# Altium schematic symbol library SCH - MCU - STM32 - ST MICROELECTRONICS STM32H573AIIX UFBGA169.SchLib: 1 symbol
Pins are listed as number, name and electrical type; pins without a type are passive.

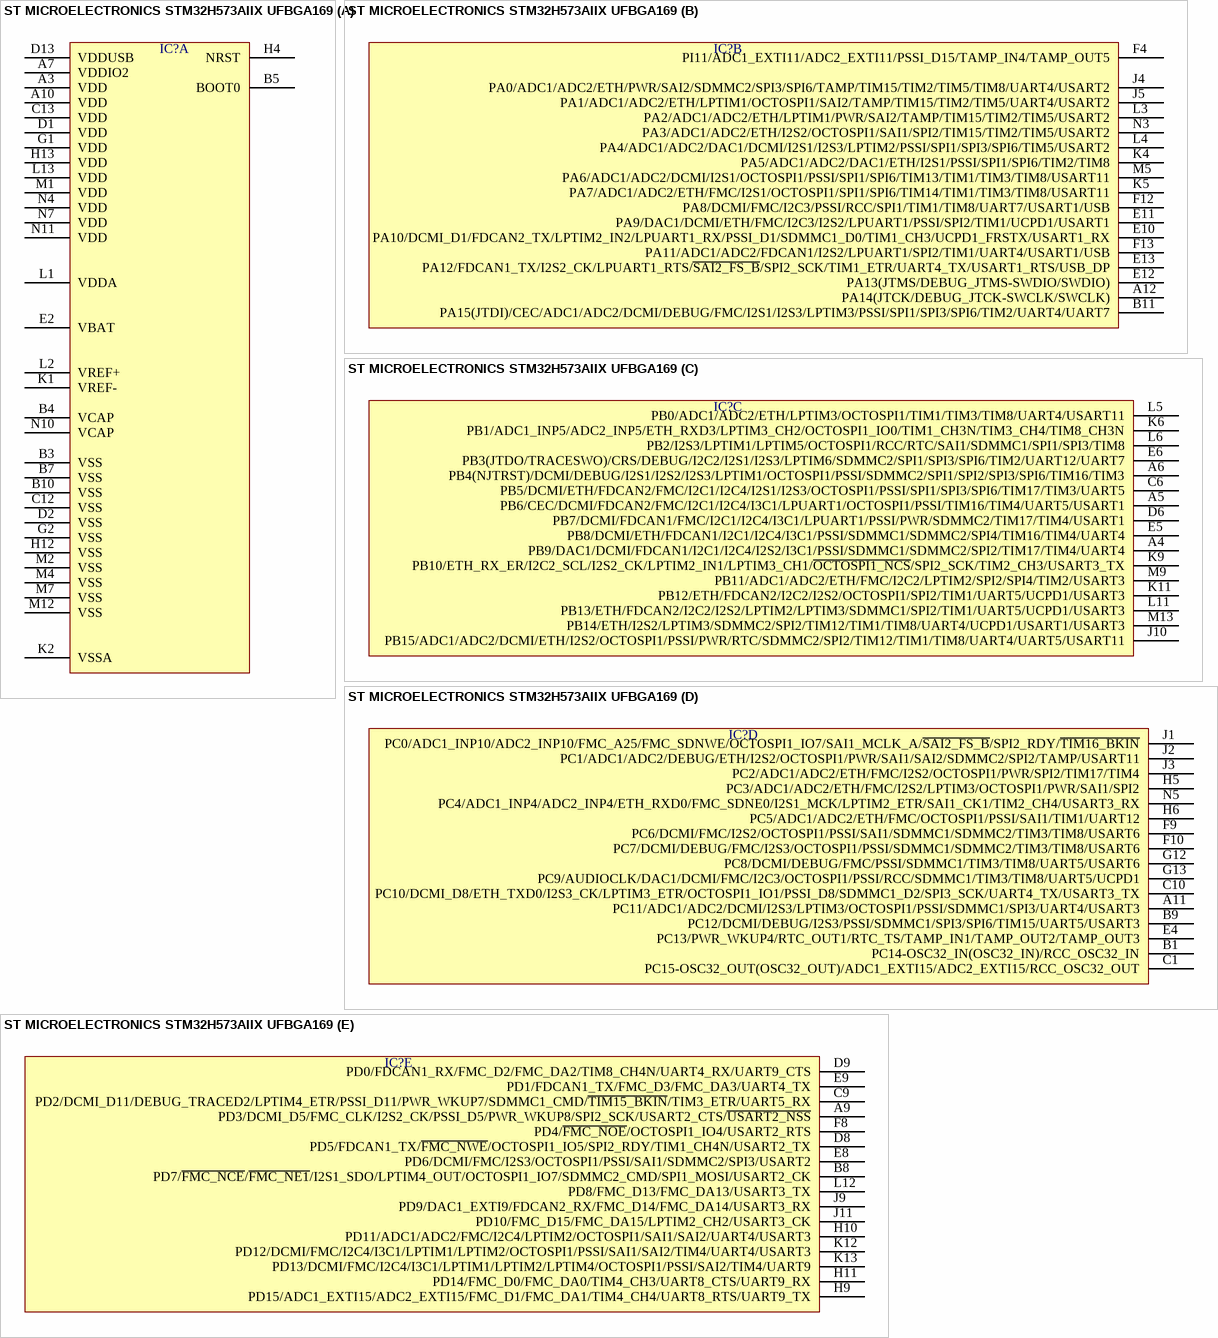
[diagram p0: symbol ST MICROELECTRONICS STM32H573AIIX UFBGA169]

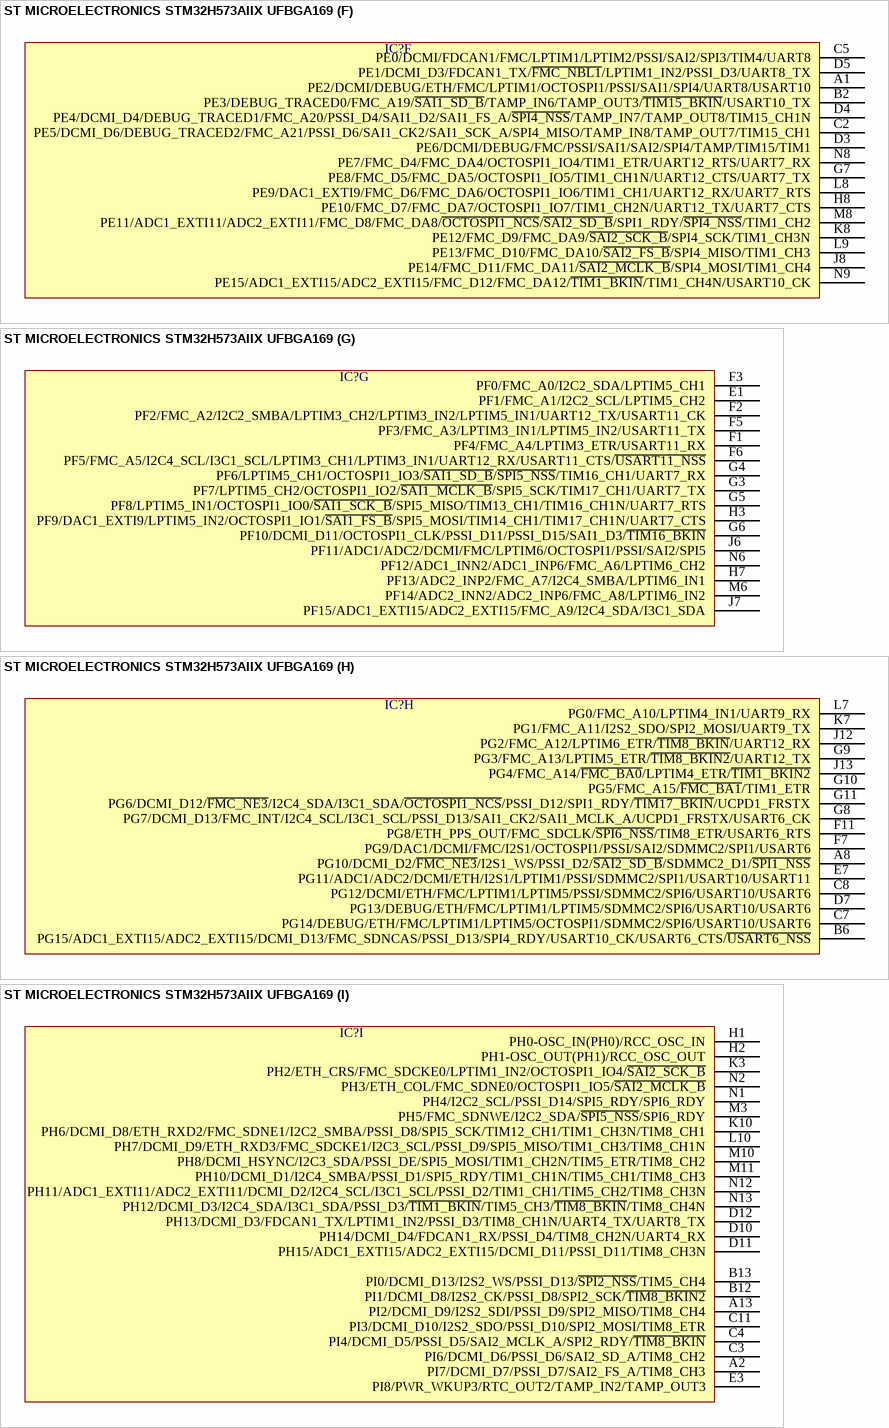
[diagram p1: symbol ST MICROELECTRONICS STM32H573AIIX UFBGA169]

## ST MICROELECTRONICS STM32H573AIIX UFBGA169
designator IC?  (value not drawn)
part A pins: A3 VDD, A7 VDDIO2, A10 VDD, B3 VSS, B4 VCAP, B5 BOOT0, B7 VSS, B10 VSS, C12 VSS, C13 VDD, D1 VDD, D2 VSS, D13 VDDUSB, E2 VBAT, G1 VDD, G2 VSS, H4 NRST, H12 VSS, H13 VDD, K1 VREF-, K2 VSSA, L1 VDDA, L2 VREF+, L13 VDD, M1 VDD, M2 VSS, M4 VSS, M7 VSS, M12 VSS, N4 VDD, N7 VDD, N10 VCAP, N11 VDD
part B pins: A12 PA14(JTCK/DEBUG_JTCK-SWCLK/SWCLK), B11 PA15(JTDI)/CEC/ADC1/ADC2/DCMI/DEBUG/FMC/I2S1/I2S3/LPTIM3/PSSI/SPI1/SPI3/SPI6/TIM2/UART4/UART7, E10 PA10/DCMI_D1/FDCAN2_TX/LPTIM2_IN2/LPUART1_RX/PSSI_D1/SDMMC1_D0/TIM1_CH3/UCPD1_FRSTX/USART1_RX, E11 PA9/DAC1/DCMI/ETH/FMC/I2C3/I2S2/LPUART1/PSSI/SPI2/TIM1/UCPD1/USART1, E12 PA13(JTMS/DEBUG_JTMS-SWDIO/SWDIO), E13 PA12/FDCAN1_TX/I2S2_CK/LPUART1_RTS/~{SAI2_FS_B}/SPI2_SCK/TIM1_ETR/UART4_TX/USART1_RTS/USB_DP, F4 PI11/ADC1_EXTI11/ADC2_EXTI11/PSSI_D15/TAMP_IN4/TAMP_OUT5, F12 PA8/DCMI/FMC/I2C3/PSSI/RCC/SPI1/TIM1/TIM8/UART7/USART1/USB, F13 PA11/ADC1/ADC2/FDCAN1/I2S2/LPUART1/SPI2/TIM1/UART4/USART1/USB, J4 PA0/ADC1/ADC2/ETH/PWR/SAI2/SDMMC2/SPI3/SPI6/TAMP/TIM15/TIM2/TIM5/TIM8/UART4/USART2, J5 PA1/ADC1/ADC2/ETH/LPTIM1/OCTOSPI1/SAI2/TAMP/TIM15/TIM2/TIM5/UART4/USART2, K4 PA5/ADC1/ADC2/DAC1/ETH/I2S1/PSSI/SPI1/SPI6/TIM2/TIM8, K5 PA7/ADC1/ADC2/ETH/FMC/I2S1/OCTOSPI1/SPI1/SPI6/TIM14/TIM1/TIM3/TIM8/USART11, L3 PA2/ADC1/ADC2/ETH/LPTIM1/PWR/SAI2/TAMP/TIM15/TIM2/TIM5/USART2, L4 PA4/ADC1/ADC2/DAC1/DCMI/I2S1/I2S3/LPTIM2/PSSI/SPI1/SPI3/SPI6/TIM5/USART2, M5 PA6/ADC1/ADC2/DCMI/I2S1/OCTOSPI1/PSSI/SPI1/SPI6/TIM13/TIM1/TIM3/TIM8/USART11, N3 PA3/ADC1/ADC2/ETH/I2S2/OCTOSPI1/SAI1/SPI2/TIM15/TIM2/TIM5/USART2
part C pins: A4 PB9/DAC1/DCMI/FDCAN1/I2C1/I2C4/I2S2/I3C1/PSSI/SDMMC1/SDMMC2/SPI2/TIM17/TIM4/UART4, A5 PB6/CEC/DCMI/FDCAN2/FMC/I2C1/I2C4/I3C1/LPUART1/OCTOSPI1/PSSI/TIM16/TIM4/UART5/USART1, A6 PB4(NJTRST)/DCMI/DEBUG/I2S1/I2S2/I2S3/LPTIM1/OCTOSPI1/PSSI/SDMMC2/SPI1/SPI2/SPI3/SPI6/TIM16/TIM3, C6 PB5/DCMI/ETH/FDCAN2/FMC/I2C1/I2C4/I2S1/I2S3/OCTOSPI1/PSSI/SPI1/SPI3/SPI6/TIM17/TIM3/UART5, D6 PB7/DCMI/FDCAN1/FMC/I2C1/I2C4/I3C1/LPUART1/PSSI/PWR/SDMMC2/TIM17/TIM4/USART1, E5 PB8/DCMI/ETH/FDCAN1/I2C1/I2C4/I3C1/PSSI/SDMMC1/SDMMC2/SPI4/TIM16/TIM4/UART4, E6 PB3(JTDO/TRACESWO)/CRS/DEBUG/I2C2/I2S1/I2S3/LPTIM6/SDMMC2/SPI1/SPI3/SPI6/TIM2/UART12/UART7, J10 PB15/ADC1/ADC2/DCMI/ETH/I2S2/OCTOSPI1/PSSI/PWR/RTC/SDMMC2/SPI2/TIM12/TIM1/TIM8/UART4/UART5/USART11, K6 PB1/ADC1_INP5/ADC2_INP5/ETH_RXD3/LPTIM3_CH2/OCTOSPI1_IO0/TIM1_CH3N/TIM3_CH4/TIM8_CH3N, K9 PB10/ETH_RX_ER/I2C2_SCL/I2S2_CK/LPTIM2_IN1/LPTIM3_CH1/~{OCTOSPI1_NCS}/SPI2_SCK/TIM2_CH3/USART3_TX, K11 PB12/ETH/FDCAN2/I2C2/I2S2/OCTOSPI1/SPI2/TIM1/UART5/UCPD1/USART3, L5 PB0/ADC1/ADC2/ETH/LPTIM3/OCTOSPI1/TIM1/TIM3/TIM8/UART4/USART11, L6 PB2/I2S3/LPTIM1/LPTIM5/OCTOSPI1/RCC/RTC/SAI1/SDMMC1/SPI1/SPI3/TIM8, L11 PB13/ETH/FDCAN2/I2C2/I2S2/LPTIM2/LPTIM3/SDMMC1/SPI2/TIM1/UART5/UCPD1/USART3, M9 PB11/ADC1/ADC2/ETH/FMC/I2C2/LPTIM2/SPI2/SPI4/TIM2/USART3, M13 PB14/ETH/I2S2/LPTIM3/SDMMC2/SPI2/TIM12/TIM1/TIM8/UART4/UCPD1/USART1/USART3
part D pins: A11 PC11/ADC1/ADC2/DCMI/I2S3/LPTIM3/OCTOSPI1/PSSI/SDMMC1/SPI3/UART4/USART3, B1 PC14-OSC32_IN(OSC32_IN)/RCC_OSC32_IN, B9 PC12/DCMI/DEBUG/I2S3/PSSI/SDMMC1/SPI3/SPI6/TIM15/UART5/USART3, C1 PC15-OSC32_OUT(OSC32_OUT)/ADC1_EXTI15/ADC2_EXTI15/RCC_OSC32_OUT, C10 PC10/DCMI_D8/ETH_TXD0/I2S3_CK/LPTIM3_ETR/OCTOSPI1_IO1/PSSI_D8/SDMMC1_D2/SPI3_SCK/UART4_TX/USART3_TX, E4 PC13/PWR_WKUP4/RTC_OUT1/RTC_TS/TAMP_IN1/TAMP_OUT2/TAMP_OUT3, F9 PC6/DCMI/FMC/I2S2/OCTOSPI1/PSSI/SAI1/SDMMC1/SDMMC2/TIM3/TIM8/USART6, F10 PC7/DCMI/DEBUG/FMC/I2S3/OCTOSPI1/PSSI/SDMMC1/SDMMC2/TIM3/TIM8/USART6, G12 PC8/DCMI/DEBUG/FMC/PSSI/SDMMC1/TIM3/TIM8/UART5/USART6, G13 PC9/AUDIOCLK/DAC1/DCMI/FMC/I2C3/OCTOSPI1/PSSI/RCC/SDMMC1/TIM3/TIM8/UART5/UCPD1, H5 PC3/ADC1/ADC2/ETH/FMC/I2S2/LPTIM3/OCTOSPI1/PWR/SAI1/SPI2, H6 PC5/ADC1/ADC2/ETH/FMC/OCTOSPI1/PSSI/SAI1/TIM1/UART12, J1 PC0/ADC1_INP10/ADC2_INP10/FMC_A25/FMC_SDNWE/OCTOSPI1_IO7/SAI1_MCLK_A/~{SAI2_FS_B}/SPI2_RDY/~{TIM16_BKIN}, J2 PC1/ADC1/ADC2/DEBUG/ETH/I2S2/OCTOSPI1/PWR/SAI1/SAI2/SDMMC2/SPI2/TAMP/USART11, J3 PC2/ADC1/ADC2/ETH/FMC/I2S2/OCTOSPI1/PWR/SPI2/TIM17/TIM4, N5 PC4/ADC1_INP4/ADC2_INP4/ETH_RXD0/FMC_SDNE0/I2S1_MCK/LPTIM2_ETR/SAI1_CK1/TIM2_CH4/USART3_RX
part E pins: A9 PD3/DCMI_D5/FMC_CLK/I2S2_CK/PSSI_D5/PWR_WKUP8/SPI2_SCK/USART2_CTS/~{USART2_NSS}, B8 PD7/~{FMC_NCE}/~{FMC_NE1}/I2S1_SDO/LPTIM4_OUT/OCTOSPI1_IO7/SDMMC2_CMD/SPI1_MOSI/USART2_CK, C9 PD2/DCMI_D11/DEBUG_TRACED2/LPTIM4_ETR/PSSI_D11/PWR_WKUP7/SDMMC1_CMD/~{TIM15_BKIN}/TIM3_ETR/UART5_RX, D8 PD5/FDCAN1_TX/~{FMC_NWE}/OCTOSPI1_IO5/SPI2_RDY/TIM1_CH4N/USART2_TX, D9 PD0/FDCAN1_RX/FMC_D2/FMC_DA2/TIM8_CH4N/UART4_RX/UART9_CTS, E8 PD6/DCMI/FMC/I2S3/OCTOSPI1/PSSI/SAI1/SDMMC2/SPI3/USART2, E9 PD1/FDCAN1_TX/FMC_D3/FMC_DA3/UART4_TX, F8 PD4/~{FMC_NOE}/OCTOSPI1_IO4/USART2_RTS, H9 PD15/ADC1_EXTI15/ADC2_EXTI15/FMC_D1/FMC_DA1/TIM4_CH4/UART8_RTS/UART9_TX, H10 PD11/ADC1/ADC2/FMC/I2C4/LPTIM2/OCTOSPI1/SAI1/SAI2/UART4/USART3, H11 PD14/FMC_D0/FMC_DA0/TIM4_CH3/UART8_CTS/UART9_RX, J9 PD9/DAC1_EXTI9/FDCAN2_RX/FMC_D14/FMC_DA14/USART3_RX, J11 PD10/FMC_D15/FMC_DA15/LPTIM2_CH2/USART3_CK, K12 PD12/DCMI/FMC/I2C4/I3C1/LPTIM1/LPTIM2/OCTOSPI1/PSSI/SAI1/SAI2/TIM4/UART4/USART3, K13 PD13/DCMI/FMC/I2C4/I3C1/LPTIM1/LPTIM2/LPTIM4/OCTOSPI1/PSSI/SAI2/TIM4/UART9, L12 PD8/FMC_D13/FMC_DA13/USART3_TX
part F pins: A1 PE2/DCMI/DEBUG/ETH/FMC/LPTIM1/OCTOSPI1/PSSI/SAI1/SPI4/UART8/USART10, B2 PE3/DEBUG_TRACED0/FMC_A19/~{SAI1_SD_B}/TAMP_IN6/TAMP_OUT3/~{TIM15_BKIN}/USART10_TX, C2 PE5/DCMI_D6/DEBUG_TRACED2/FMC_A21/PSSI_D6/SAI1_CK2/SAI1_SCK_A/SPI4_MISO/TAMP_IN8/TAMP_OUT7/TIM15_CH1, C5 PE0/DCMI/FDCAN1/FMC/LPTIM1/LPTIM2/PSSI/SAI2/SPI3/TIM4/UART8, D3 PE6/DCMI/DEBUG/FMC/PSSI/SAI1/SAI2/SPI4/TAMP/TIM15/TIM1, D4 PE4/DCMI_D4/DEBUG_TRACED1/FMC_A20/PSSI_D4/SAI1_D2/SAI1_FS_A/~{SPI4_NSS}/TAMP_IN7/TAMP_OUT8/TIM15_CH1N, D5 PE1/DCMI_D3/FDCAN1_TX/~{FMC_NBL1}/LPTIM1_IN2/PSSI_D3/UART8_TX, G7 PE8/FMC_D5/FMC_DA5/OCTOSPI1_IO5/TIM1_CH1N/UART12_CTS/UART7_TX, H8 PE10/FMC_D7/FMC_DA7/OCTOSPI1_IO7/TIM1_CH2N/UART12_TX/UART7_CTS, J8 PE14/FMC_D11/FMC_DA11/~{SAI2_MCLK_B}/SPI4_MOSI/TIM1_CH4, K8 PE12/FMC_D9/FMC_DA9/~{SAI2_SCK_B}/SPI4_SCK/TIM1_CH3N, L8 PE9/DAC1_EXTI9/FMC_D6/FMC_DA6/OCTOSPI1_IO6/TIM1_CH1/UART12_RX/UART7_RTS, L9 PE13/FMC_D10/FMC_DA10/~{SAI2_FS_B}/SPI4_MISO/TIM1_CH3, M8 PE11/ADC1_EXTI11/ADC2_EXTI11/FMC_D8/FMC_DA8/~{OCTOSPI1_NCS}/~{SAI2_SD_B}/SPI1_RDY/~{SPI4_NSS}/TIM1_CH2, N8 PE7/FMC_D4/FMC_DA4/OCTOSPI1_IO4/TIM1_ETR/UART12_RTS/UART7_RX, N9 PE15/ADC1_EXTI15/ADC2_EXTI15/FMC_D12/FMC_DA12/~{TIM1_BKIN}/TIM1_CH4N/USART10_CK
part G pins: E1 PF1/FMC_A1/I2C2_SCL/LPTIM5_CH2, F1 PF4/FMC_A4/LPTIM3_ETR/USART11_RX, F2 PF2/FMC_A2/I2C2_SMBA/LPTIM3_CH2/LPTIM3_IN2/LPTIM5_IN1/UART12_TX/USART11_CK, F3 PF0/FMC_A0/I2C2_SDA/LPTIM5_CH1, F5 PF3/FMC_A3/LPTIM3_IN1/LPTIM5_IN2/USART11_TX, F6 PF5/FMC_A5/I2C4_SCL/I3C1_SCL/LPTIM3_CH1/LPTIM3_IN1/UART12_RX/USART11_CTS/~{USART11_NSS}, G3 PF7/LPTIM5_CH2/OCTOSPI1_IO2/~{SAI1_MCLK_B}/SPI5_SCK/TIM17_CH1/UART7_TX, G4 PF6/LPTIM5_CH1/OCTOSPI1_IO3/~{SAI1_SD_B}/~{SPI5_NSS}/TIM16_CH1/UART7_RX, G5 PF8/LPTIM5_IN1/OCTOSPI1_IO0/~{SAI1_SCK_B}/SPI5_MISO/TIM13_CH1/TIM16_CH1N/UART7_RTS, G6 PF10/DCMI_D11/OCTOSPI1_CLK/PSSI_D11/PSSI_D15/SAI1_D3/~{TIM16_BKIN}, H3 PF9/DAC1_EXTI9/LPTIM5_IN2/OCTOSPI1_IO1/~{SAI1_FS_B}/SPI5_MOSI/TIM14_CH1/TIM17_CH1N/UART7_CTS, H7 PF13/ADC2_INP2/FMC_A7/I2C4_SMBA/LPTIM6_IN1, J6 PF11/ADC1/ADC2/DCMI/FMC/LPTIM6/OCTOSPI1/PSSI/SAI2/SPI5, J7 PF15/ADC1_EXTI15/ADC2_EXTI15/FMC_A9/I2C4_SDA/I3C1_SDA, M6 PF14/ADC2_INN2/ADC2_INP6/FMC_A8/LPTIM6_IN2, N6 PF12/ADC1_INN2/ADC1_INP6/FMC_A6/LPTIM6_CH2
part H pins: A8 PG10/DCMI_D2/~{FMC_NE3}/I2S1_WS/PSSI_D2/~{SAI2_SD_B}/SDMMC2_D1/~{SPI1_NSS}, B6 PG15/ADC1_EXTI15/ADC2_EXTI15/DCMI_D13/FMC_SDNCAS/PSSI_D13/SPI4_RDY/USART10_CK/USART6_CTS/~{USART6_NSS}, C7 PG14/DEBUG/ETH/FMC/LPTIM1/LPTIM5/OCTOSPI1/SDMMC2/SPI6/USART10/USART6, C8 PG12/DCMI/ETH/FMC/LPTIM1/LPTIM5/PSSI/SDMMC2/SPI6/USART10/USART6, D7 PG13/DEBUG/ETH/FMC/LPTIM1/LPTIM5/SDMMC2/SPI6/USART10/USART6, E7 PG11/ADC1/ADC2/DCMI/ETH/I2S1/LPTIM1/PSSI/SDMMC2/SPI1/USART10/USART11, F7 PG9/DAC1/DCMI/FMC/I2S1/OCTOSPI1/PSSI/SAI2/SDMMC2/SPI1/USART6, F11 PG8/ETH_PPS_OUT/FMC_SDCLK/~{SPI6_NSS}/TIM8_ETR/USART6_RTS, G8 PG7/DCMI_D13/FMC_INT/I2C4_SCL/I3C1_SCL/PSSI_D13/SAI1_CK2/SAI1_MCLK_A/UCPD1_FRSTX/USART6_CK, G9 PG3/FMC_A13/LPTIM5_ETR/~{TIM8_BKIN2}/UART12_TX, G10 PG5/FMC_A15/~{FMC_BA1}/TIM1_ETR, G11 PG6/DCMI_D12/~{FMC_NE3}/I2C4_SDA/I3C1_SDA/~{OCTOSPI1_NCS}/PSSI_D12/SPI1_RDY/~{TIM17_BKIN}/UCPD1_FRSTX, J12 PG2/FMC_A12/LPTIM6_ETR/~{TIM8_BKIN}/UART12_RX, J13 PG4/FMC_A14/~{FMC_BA0}/LPTIM4_ETR/~{TIM1_BKIN2}, K7 PG1/FMC_A11/I2S2_SDO/SPI2_MOSI/UART9_TX, L7 PG0/FMC_A10/LPTIM4_IN1/UART9_RX
part I pins: A2 PI7/DCMI_D7/PSSI_D7/SAI2_FS_A/TIM8_CH3, A13 PI2/DCMI_D9/I2S2_SDI/PSSI_D9/SPI2_MISO/TIM8_CH4, B12 PI1/DCMI_D8/I2S2_CK/PSSI_D8/SPI2_SCK/~{TIM8_BKIN2}, B13 PI0/DCMI_D13/I2S2_WS/PSSI_D13/~{SPI2_NSS}/TIM5_CH4, C3 PI6/DCMI_D6/PSSI_D6/SAI2_SD_A/TIM8_CH2, C4 PI4/DCMI_D5/PSSI_D5/SAI2_MCLK_A/SPI2_RDY/~{TIM8_BKIN}, C11 PI3/DCMI_D10/I2S2_SDO/PSSI_D10/SPI2_MOSI/TIM8_ETR, D10 PH14/DCMI_D4/FDCAN1_RX/PSSI_D4/TIM8_CH2N/UART4_RX, D11 PH15/ADC1_EXTI15/ADC2_EXTI15/DCMI_D11/PSSI_D11/TIM8_CH3N, D12 PH13/DCMI_D3/FDCAN1_TX/LPTIM1_IN2/PSSI_D3/TIM8_CH1N/UART4_TX/UART8_TX, E3 PI8/PWR_WKUP3/RTC_OUT2/TAMP_IN2/TAMP_OUT3, H1 PH0-OSC_IN(PH0)/RCC_OSC_IN, H2 PH1-OSC_OUT(PH1)/RCC_OSC_OUT, K3 PH2/ETH_CRS/FMC_SDCKE0/LPTIM1_IN2/OCTOSPI1_IO4/~{SAI2_SCK_B}, K10 PH6/DCMI_D8/ETH_RXD2/FMC_SDNE1/I2C2_SMBA/PSSI_D8/SPI5_SCK/TIM12_CH1/TIM1_CH3N/TIM8_CH1, L10 PH7/DCMI_D9/ETH_RXD3/FMC_SDCKE1/I2C3_SCL/PSSI_D9/SPI5_MISO/TIM1_CH3/TIM8_CH1N, M3 PH5/FMC_SDNWE/I2C2_SDA/~{SPI5_NSS}/SPI6_RDY, M10 PH8/DCMI_HSYNC/I2C3_SDA/PSSI_DE/SPI5_MOSI/TIM1_CH2N/TIM5_ETR/TIM8_CH2, M11 PH10/DCMI_D1/I2C4_SMBA/PSSI_D1/SPI5_RDY/TIM1_CH1N/TIM5_CH1/TIM8_CH3, N1 PH4/I2C2_SCL/PSSI_D14/SPI5_RDY/SPI6_RDY, N2 PH3/ETH_COL/FMC_SDNE0/OCTOSPI1_IO5/~{SAI2_MCLK_B}, N12 PH11/ADC1_EXTI11/ADC2_EXTI11/DCMI_D2/I2C4_SCL/I3C1_SCL/PSSI_D2/TIM1_CH1/TIM5_CH2/TIM8_CH3N, N13 PH12/DCMI_D3/I2C4_SDA/I3C1_SDA/PSSI_D3/~{TIM1_BKIN}/TIM5_CH3/~{TIM8_BKIN}/TIM8_CH4N